# Altium schematic symbol library PJ301M-12.SchLib: 1 symbol
Pins are listed as number, name and electrical type; pins without a type are passive.

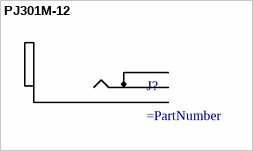
[diagram p0: symbol PJ301M-12]

## PJ301M-12
designator J?
pins: 1, 2, 3